# Altium schematic symbol library LDO^DCDC^PMIC.SchLib: 5 symbols
Pins are listed as number, name and electrical type; pins without a type are passive.

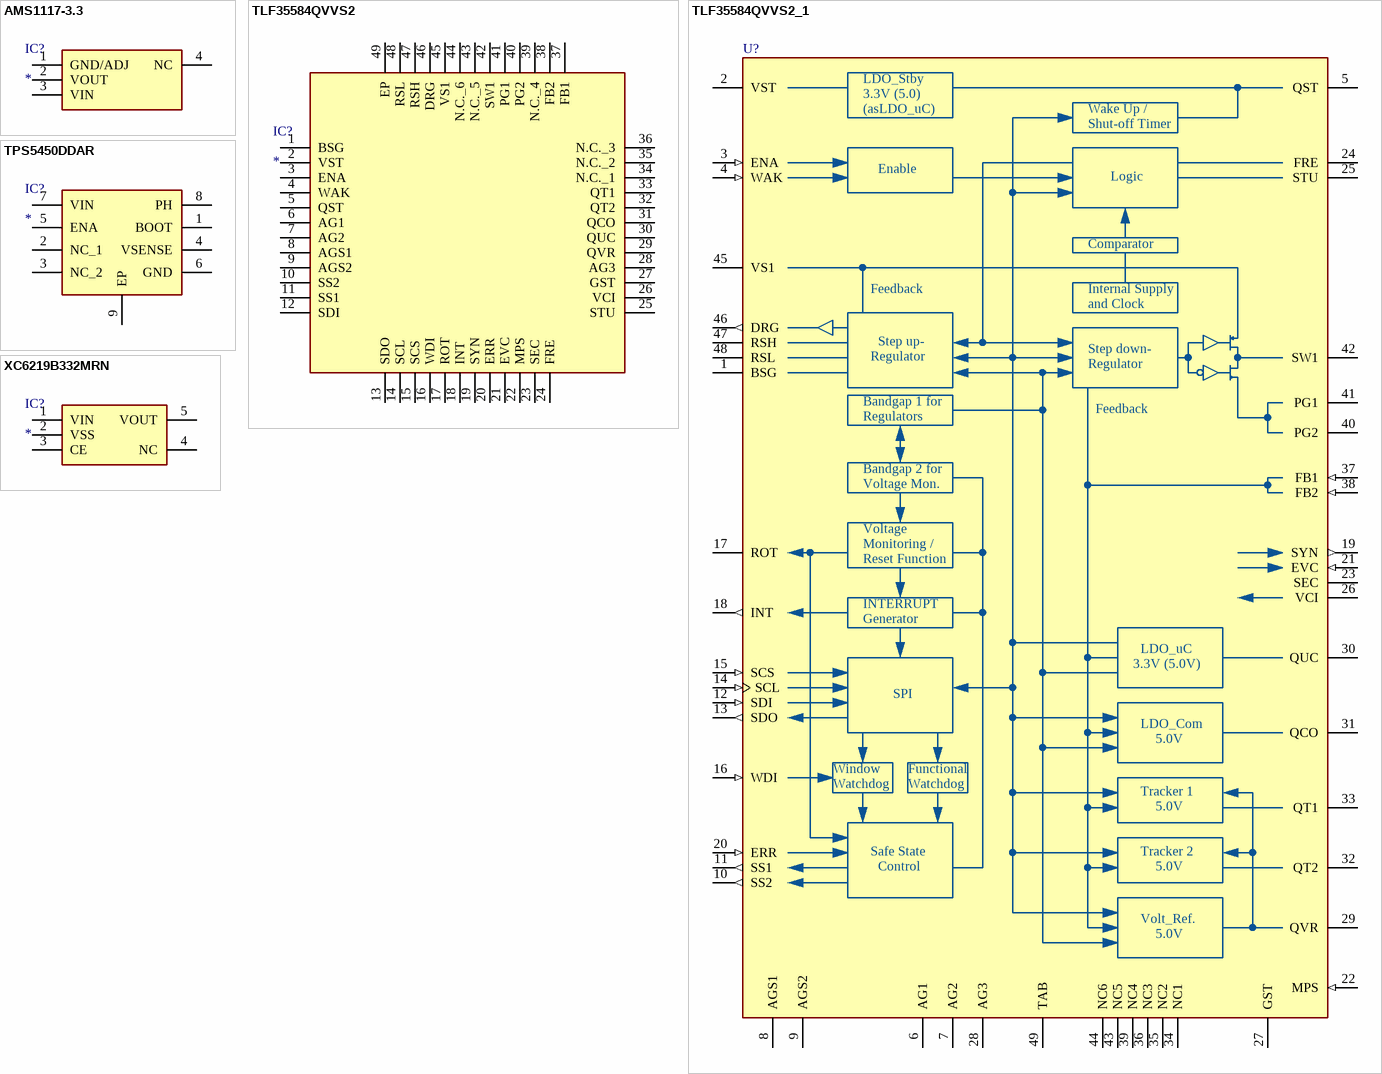
[diagram p0: symbols AMS1117-3.3 to XC6219B332MRN]

## AMS1117-3.3
designator IC?
Integrated Circuit; Manufacturer_Name: Advanced; Manufacturer_Part_Number: AMS1117-3.3; Description: Descriptions of ams AMS1117-3.3 provided by its distributors.; Datasheet Link: https://datasheet.datasheetarchive.com/originals/distributors/Datasheets-28/DSA-550594.pdf; Height: 1.8mm
footprint SOT229P700X180-4N (Footprint not found)
pins: 1 GND/ADJ, 2 VOUT, 3 VIN, 4 NC

## TLF35584QVVS2
designator IC?
Integrated Circuit; Manufacturer_Name: Infineon; Manufacturer_Part_Number: TLF35584QVVS2; Datasheet Link: http://www.farnell.com/datasheets/2820312.pdf; Height: 0.9mm; Mouser Part Number: N/A; Mouser Price/Stock: https://www.mouser.co.uk/ProductDetail/Infineon-Technologies/TLF35584QVVS2?qs=l9vRkkPGK2mbsGIT9lqTbg%3D%3D
footprint QFN50P700X700X90-49N-D
pins: 1 BSG, 2 VST, 3 ENA, 4 WAK, 5 QST, 6 AG1, 7 AG2, 8 AGS1, 9 AGS2, 10 SS2, 11 SS1, 12 SDI, 13 SDO, 14 SCL, 15 SCS, 16 WDI, 17 ROT, 18 INT, 19 SYN, 20 ERR, 21 EVC, 22 MPS, 23 SEC, 24 FRE, 25 STU, 26 VCI, 27 GST, 28 AG3, 29 QVR, 30 QUC, 31 QCO, 32 QT2, 33 QT1, 34 N.C._1, 35 N.C._2, 36 N.C._3, 37 FB1, 38 FB2, 39 N.C._4, 40 PG2, 41 PG1, 42 SW1, 43 N.C._5, 44 N.C._6, 45 VS1, 46 DRG, 47 RSH, 48 RSL, 49 EP

## TLF35584QVVS2_1
designator U?, comment TLF35584QVVS2  (value not drawn)
Multi Voltage Safety Micro Processor Supply, (3.3V Variant); Manufacturer: Infineon Technologies; ManufacturerPartNumber: TLF35584QVVS2; PackageReference: PG-VQFN-48
footprint QFN50P700X700X90-49N-3-1 (Footprint not found)
pins: 1 BSG (power) "Boost Driver Ground", 2 VST (power) "Supply Voltage Standby Regulator Input", 3 ENA (in) "Enable Input", 4 WAK (in) "Wake / Inhibit Input", 5 QST (power) "Output Standby LDO", 6 AG1 (power) "Analogue Ground / Pin 1", 7 AG2 (power) "Analogue Ground / Pin 2", 8 AGS1 (power) "Analogue Ground Safety / Pin 1", 9 AGS2 (power) "Analogue Ground Safety / Pin 2", 10 SS2 (out) "Safe State Signal 2", 11 SS1 (out) "Safe State Signal 1", 12 SDI (in) "Serial Peripheral Interface / Signal Data Input", 13 SDO (out) "Serial Peripheral Interface / Signal Data Output", 14 SCL (in) "Serial Peripheral Interface / Signal Clock", 15 SCS (in) "Serial Peripheral Interface / Signal Chip Select", 16 WDI (in) "Watchdog Input / Trigger Signal", 17 ROT (oc) "Reset Output", 18 INT (out) "Interrupt Signal", 19 SYN (out) "Synchronization Output Signal", 20 ERR (in) "Error Signal Input", 21 EVC (in) "Enable External Switch Mode Post Regulator for Core Supply", 22 MPS (in) "Microcontroller Programming Support", 23 SEC "Configuration Pin for External Switch Mode Post Regulator for Core Supply", 24 FRE "Frequency Adjustment Pin", 25 STU "Configuration Pin for Step up Converter", 26 VCI (power) "Input for Optional External Switch Mode Post Regulator Output Voltage", 27 GST "Gate Stress Pin", 28 AG3 (power) "Analogue Ground / Pin 3", 29 QVR (power) "Output Voltage Reference", 30 QUC (power) "Output LDO Microcontroller Supply", 31 QCO (power) "Output LDO Communication Supply", 32 QT2 "Output Tracker 2", 33 QT1 "Output Tracker 1", 34 NC1 "Not Connected", 35 NC2 "Not connected", 36 NC3 "Step Not Connected", 37 FB1 (in) "Step Down Preregulator Feedback Input / Pin 1", 38 FB2 (in) "Step Down Preregulator Feedback Input / Pin 2", 39 NC4 (power) "Analogue Ground / Pin 4", 40 PG2 (power) "Step Down Preregulator Power Ground / Pin 2", 41 PG1 (power) "Step Down Preregulator Power Ground / Pin 1", 42 SW1 (power) "Step Down Pre Regulator Power Stage Output / Pin 2", 43 NC5 "Not connected", 44 NC6 "Not Connected", 45 VS1 (power) "Supply Voltage Step Down Preregulator, Pin 1, Input", 46 DRG (out) "Driver Output for External Step Up Regulator Power Stage", 47 RSH (power) "Sense Resistor for External Step Up Regulator Power Stage, High Side", 48 RSL (power) "Sense Resistor for External Step Up Regulator Power Stage, Low Side", 49 TAB (power) "Cooling Tab, Internal Connected to Ground"
text: LDO_Stby; 3.3V (5.0); (asLDO_uC); Wake Up /; Shut-off Timer; Enable; Logic; Comparator; Feedback; Internal Supply; and Clock; Step up-; Step down-; Regulator; Bandgap 1 for; Regulators; Bandgap 2 for; Voltage Mon.; Voltage; Monitoring /; Reset Function; INTERRUPT; Generator; LDO_uC; 3.3V (5.0V); SPI; LDO_Com; 5.0V; Window; Functional; Watchdog; Tracker 1; Safe State; Tracker 2; Control; Volt_Ref.

## TPS5450DDAR
designator IC?
Integrated Circuit; Manufacturer_Name: Texas Instruments; Manufacturer_Part_Number: TPS5450DDAR; Datasheet Link: http://www.ti.com/general/docs/suppproductinfo.tsp?distId=10&gotoUrl=http%3A%2F%2Fwww.ti.com%2Flit%2Fgpn%2Ftps5450; Height: 1.7mm; Mouser Part Number: 595-TPS5450DDAR; Mouser Price/Stock: https://www.mouser.co.uk/ProductDetail/Texas-Instruments/TPS5450DDAR?qs=h%2FYsCRHtaqPaz8oWBdcCug%3D%3D; Arrow Part Number: TPS5450DDAR; Arrow Price/Stock: https://www.arrow.com/en/products/tps5450ddar/texas-instruments?region=nac
footprint SOIC127P600X170-9N (Footprint not found)
pins: 1 BOOT, 2 NC_1, 3 NC_2, 4 VSENSE, 5 ENA, 6 GND, 7 VIN, 8 PH, 9 EP

## XC6219B332MRN
designator IC?
Integrated Circuit; Manufacturer_Name: Torex; Manufacturer_Part_Number: XC6219B332MRN; Datasheet Link: https://componentsearchengine.com/Datasheets/2/XC6219B332MRN.pdf; Height: 1.3mm
footprint SOT95P280X130-5N (Footprint not found)
pins: 1 VIN, 2 VSS, 3 CE, 4 NC, 5 VOUT